# Altium schematic symbol library LM301B.SchLib: 1 symbol
Pins are listed as number, name and electrical type; pins without a type are passive.

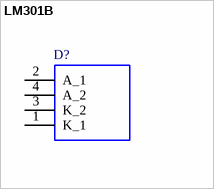
[diagram p0: symbol LM301B]

## LM301B
designator D?
Middle Power LED Series 3030; Manufacturer_Name: Samsung; Geometry.Height: 0.85mm; Manufacturer_Part_Number: LM301B; Mouser Part Number: *; Mouser Price/Stock: *; Arrow Part Number: *; Arrow Price/Stock: *; Mouser Testing Part Number: *; Mouser Testing Price/Stock: *; Datasheet Link: https://cdn.samsung.com/led/file/resource/2020/09/Data_Sheet_LM301B_CRI80_Rev.10.1.pdf
footprint LM301B
pins: 1 K_1, 2 A_1, 3 K_2, 4 A_2